# Altium footprint library SOIC127P830X200-8L.PcbLib: 1 footprints
Each footprint in its own frame and in the unit in brackets; x right, y up, seen from the top. Pads: shape width x height; smd on the part's side, far side on the other; paste and mask are expansions set on the pad; w line width, h text height; cw(c..) or ccw(c..) is an arc to the next point about the centre after c.
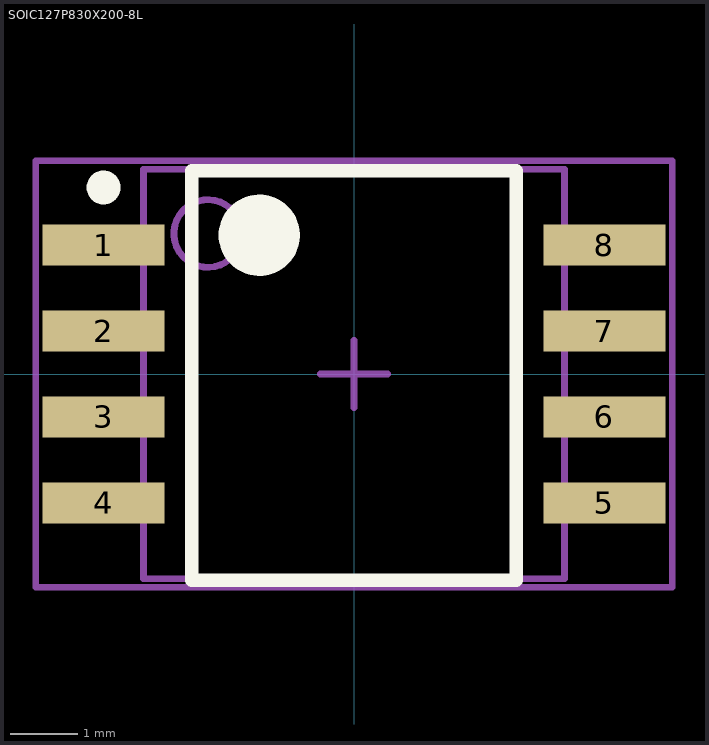
[diagram p0: the footprint, top view; thin cyan lines are the x and y axes]

## SOIC127P830X200-8L [mm] "SOIC, 8-Leads, Body 6.1x6.2mm (max), Pitch 1.27mm, IPC High Density"
height 2
pads (8):
  rect 1.8x0.6 smd: 1(-3.7,1.905) 2(-3.7,0.635) 3(-3.7,-0.635) 4(-3.7,-1.905) 5(3.7,-1.905) 6(3.7,-0.635) 7(3.7,0.635) 8(3.7,1.905)
Top Overlay:
  circle w0.6: c-1.4,2.05 r0.3
  circle w0.25: c-3.7,2.755 r0.125
  lines w0.2: -2.4,-3.05 2.4,-3.05 2.4,3 -2.4,3 -2.4,-3.05
Mechanical 13:
  circle w0.1: c-2.16,2.075 r0.5
  lines w0.1: -3.11,-3.025 3.11,-3.025 3.11,3.025 -3.11,3.025 -3.11,-3.025
Mechanical 15:
  lines w0.1: -0.5,0 0.5,0 ; 0,-0.5 0,0.5 ; -4.7,-3.15 4.7,-3.15 4.7,3.15 -4.7,3.15 -4.7,-3.15
3D body "User Library-SOIC8_(ATTINY12).step": height 2.3, standoff -0.02, extent -4.196,-2.7 4.196,2.68